# Altium integrated library 0402WGF6801TCE.IntLib: 1 symbol
Pins are listed as number, name and electrical type; pins without a type are passive.

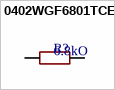
[diagram p0: symbol 0402WGF6801TCE]

## 0402WGF6801TCE
designator R?  value 6.8kO  (hidden comment: 0402WGF6801TCE)
Resistors. -55C~+155C 50V 6.8kohm 62.5mW Thick Film Resistor +/-1% +/-100ppm/C 0402 Chip Resistor - Surface Mount ROHS; Manufacturer: UNI-ROYAL(Uniroyal Elec); Component Type: Resistors; Design Item ID: 0402WGF6801TCE; JLCPCB Part #: C25917; Manufacturer Part Number: 0402WGF6801TCE
footprint 0402WGF6801TCE (R0402)
pins: 1, 2